# Altium footprint library UDP_pcb_lib.PcbLib: 1 footprints
Each footprint in its own frame and in the unit in brackets; x right, y up, seen from the top. Pads: shape width x height; smd on the part's side, far side on the other; paste and mask are expansions set on the pad; w line width, h text height; cw(c..) or ccw(c..) is an arc to the next point about the centre after c.
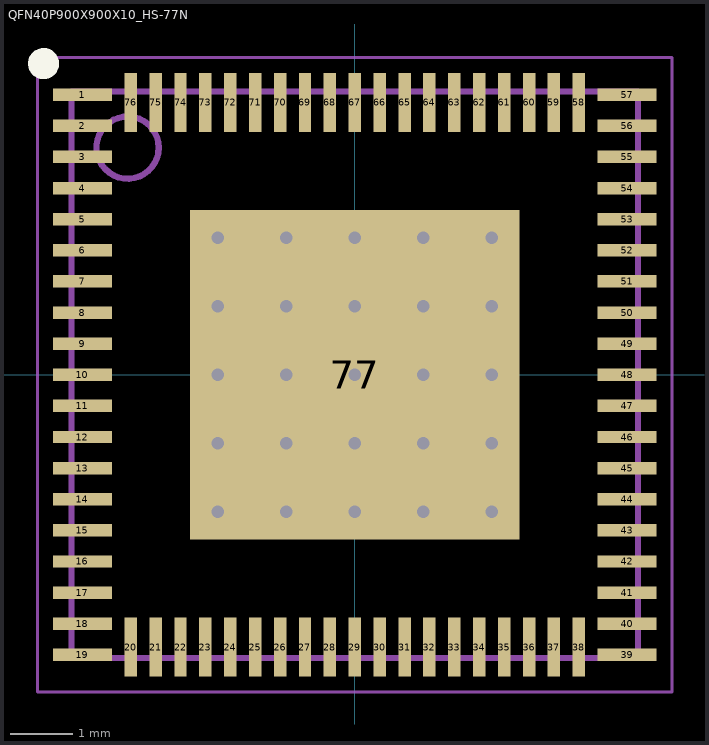
[diagram p0: the footprint, top view; thin cyan lines are the x and y axes]

## QFN40P900X900X10_HS-77N [mm] "QFN, 76-Leads, Body 9.00x9.00mm, Pitch 0.40mm/0.50mm, Thermal Pad 5.30x5.30mm, IPC Medium Density"
height 0.1
pads (77):
  rect 0.95x0.2 smd: 1(-4.375,4.5) 2(-4.375,4) 3(-4.375,3.5) 4(-4.375,3) 5(-4.375,2.5) 6(-4.375,2) 7(-4.375,1.5) 8(-4.375,1) 9(-4.375,0.5) 10(-4.375,0) 11(-4.375,-0.5) 12(-4.375,-1) 13(-4.375,-1.5) 14(-4.375,-2) 15(-4.375,-2.5) 16(-4.375,-3) 17(-4.375,-3.5) 18(-4.375,-4) 19(-4.375,-4.5) 39(4.375,-4.5) 40(4.375,-4) 41(4.375,-3.5) 42(4.375,-3) 43(4.375,-2.5) 44(4.375,-2) 45(4.375,-1.5) 46(4.375,-1) 47(4.375,-0.5) 48(4.375,0) 49(4.375,0.5) 50(4.375,1) 51(4.375,1.5) 52(4.375,2) 53(4.375,2.5) 54(4.375,3) 55(4.375,3.5) 56(4.375,4) 57(4.375,4.5)
  rect 0.2x0.95 smd: 20(-3.6,-4.375) 21(-3.2,-4.375) 22(-2.8,-4.375) 23(-2.4,-4.375) 24(-2,-4.375) 25(-1.6,-4.375) 26(-1.2,-4.375) 27(-0.8,-4.375) 28(-0.4,-4.375) 29(0,-4.375) 30(0.4,-4.375) 31(0.8,-4.375) 32(1.2,-4.375) 33(1.6,-4.375) 34(2,-4.375) 35(2.4,-4.375) 36(2.8,-4.375) 37(3.2,-4.375) 38(3.6,-4.375) 58(3.6,4.375) 59(3.2,4.375) 60(2.8,4.375) 61(2.4,4.375) 62(2,4.375) 63(1.6,4.375) 64(1.2,4.375) 65(0.8,4.375) 66(0.4,4.375) 67(0,4.375) 68(-0.4,4.375) 69(-0.8,4.375) 70(-1.2,4.375) 71(-1.6,4.375) 72(-2,4.375) 73(-2.4,4.375) 74(-2.8,4.375) 75(-3.2,4.375) 76(-3.6,4.375)
  rect 5.3x5.3 smd: 77(0,0)
via 2.2,-2.2 diameter 0.5 hole 0.2
via 1.1,-2.2 diameter 0.5 hole 0.2
via 0,-2.2 diameter 0.5 hole 0.2
via -1.1,-2.2 diameter 0.5 hole 0.2
via -2.2,-2.2 diameter 0.5 hole 0.2
via 2.2,-1.1 diameter 0.5 hole 0.2
via 1.1,-1.1 diameter 0.5 hole 0.2
via 0,-1.1 diameter 0.5 hole 0.2
via -1.1,-1.1 diameter 0.5 hole 0.2
via -2.2,-1.1 diameter 0.5 hole 0.2
via 2.2,0 diameter 0.5 hole 0.2
via 1.1,0 diameter 0.5 hole 0.2
via 0,0 diameter 0.5 hole 0.2
via -1.1,0 diameter 0.5 hole 0.2
via -2.2,0 diameter 0.5 hole 0.2
via 2.2,1.1 diameter 0.5 hole 0.2
via 1.1,1.1 diameter 0.5 hole 0.2
via 0,1.1 diameter 0.5 hole 0.2
via -1.1,1.1 diameter 0.5 hole 0.2
via -2.2,1.1 diameter 0.5 hole 0.2
via 2.2,2.2 diameter 0.5 hole 0.2
via 1.1,2.2 diameter 0.5 hole 0.2
via 0,2.2 diameter 0.5 hole 0.2
via -1.1,2.2 diameter 0.5 hole 0.2
via -2.2,2.2 diameter 0.5 hole 0.2
Top Overlay:
  circle w0.25: c-5,5 r0.125
Mechanical 13:
  circle w0.1: c-3.65,3.65 r0.5
  lines w0.1: -4.55,-4.55 4.55,-4.55 4.55,4.55 -4.55,4.55 -4.55,-4.55
Mechanical 15:
  lines w0.05: -5.1,-5.1 5.1,-5.1 5.1,5.1 -5.1,5.1 -5.1,-5.1
  lines w0.1: -0.5,0 0.5,0 ; 0,-0.5 0,0.5
3D body "QFN40P900X900X10_HS-77N.step": height 0.2, standoff 0, extent -4.551,-4.6 4.551,4.6